# EAGLE library part DF11-06-2DSA_S (library con-hirose-df11)
HEADER
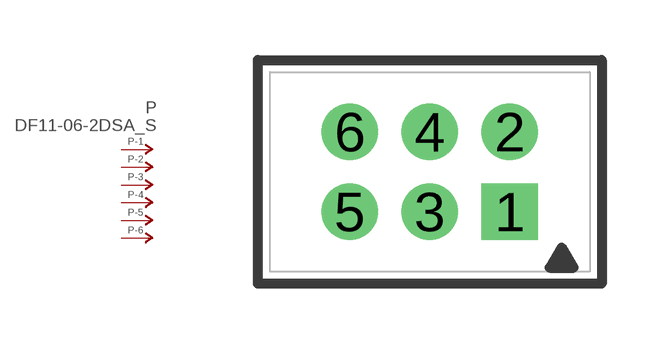
[diagram p14: symbol with the pads of DF11-06DP-2DSA; footprint DF11-06DP-2DSA]

Designator prefix P; gates -1=P-NV -2=P-N -3=P-N -4=P-N -5=P-N -6=P-N

## DF11-06-2DSA_S  [DF11-06DP-2DSA]
1  -1:P  pas
2  -2:P  pas
3  -3:P  pas
4  -4:P  pas
5  -5:P  pas
6  -6:P  pas

## Footprint DF11-06DP-2DSA (pad centres in mm)
HEADER
drill 0.914 square: 1 2,-1
drill 0.914: 2 2,1; 3 0,-1; 4 0,1; 5 -2,-1; 6 -2,1